# Altium footprint library 5-146285-2.PcbLib: 1 footprints
Each footprint in its own frame and in the unit in brackets; x right, y up, seen from the top. Pads: shape width x height; smd on the part's side, far side on the other; paste and mask are expansions set on the pad; w line width, h text height; cw(c..) or ccw(c..) is an arc to the next point about the centre after c.
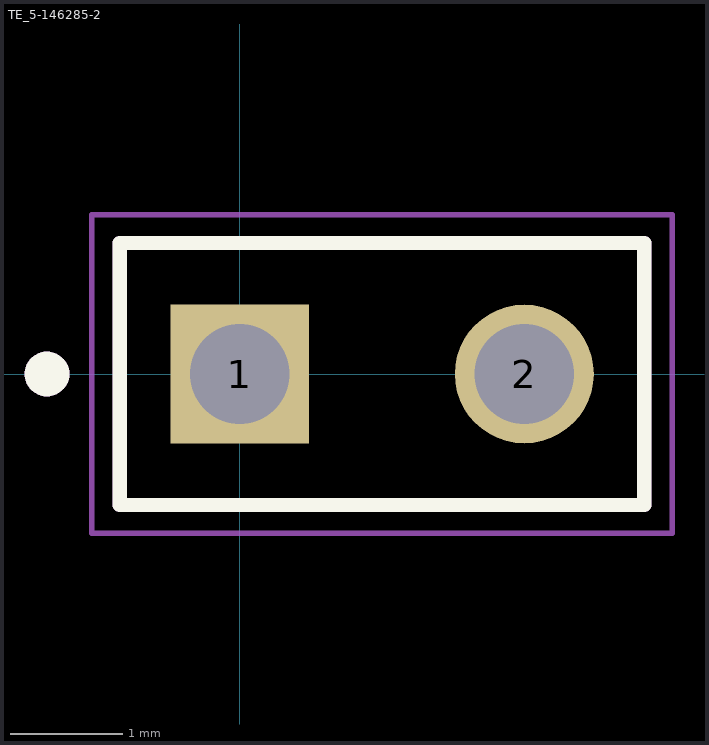
[diagram p0: the footprint, top view; thin cyan lines are the x and y axes]

## TE_5-146285-2 [mm]
pads (2):
  rect 1.24x1.24 hole 0.89: 1(0,0)
  round 1.24 hole 0.89: 2(2.54,0)
Top Overlay:
  circle w0.2: c-1.72,0 r0.1
  lines w0.127: -1.07,-1.17 3.61,-1.17 3.61,1.17 -1.07,1.17 -1.07,-1.17
Mechanical 13:
  circle w0.2: c-1.72,0 r0.1
  lines w0.127: -1.07,-1.17 3.61,-1.17 ; -1.07,-1.17 3.61,-1.17 ; -1.07,-1.17 -1.07,1.17 3.61,1.17 3.61,-1.17
Mechanical 15:
  lines w0.05: -1.32,-1.42 3.86,-1.42 3.86,1.42 -1.32,1.42 -1.32,-1.42
3D body "step_temp.STEP": height 1.17, standoff -1.17, extent -2.337,-5.84 2.337,4.576